# Altium footprint library Discrete_Diodes_TVS.PcbLib: 4 footprints
Each footprint in its own frame and in the unit in brackets; x right, y up, seen from the top. Pads: shape width x height; smd on the part's side, far side on the other; paste and mask are expansions set on the pad; w line width, h text height; cw(c..) or ccw(c..) is an arc to the next point about the centre after c.
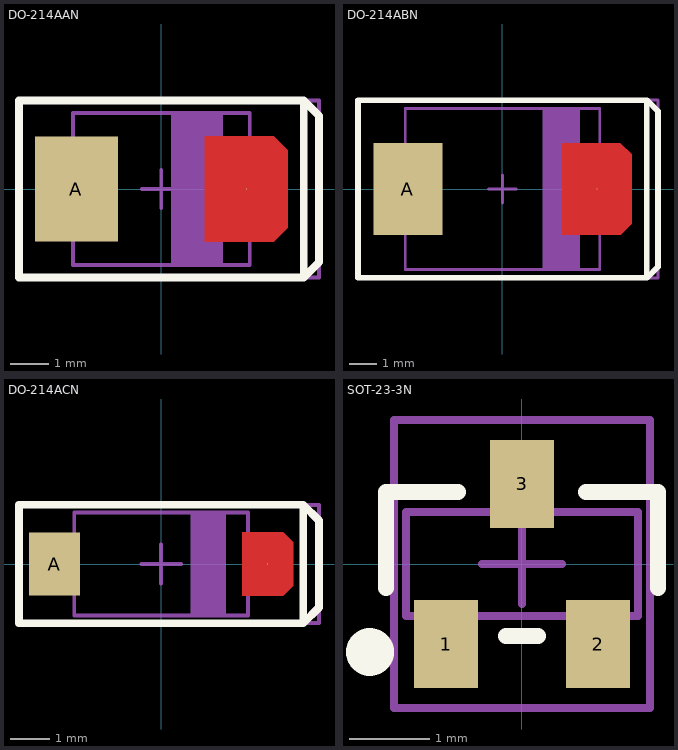
[diagram p0: the footprints below, top view; thin cyan lines are the x and y axes]

## DO-214AAN [mil]
height 98.43
pads (2):
  rect 85x107.99 smd: A(-87.01,0)
  round 1 smd: C(87.01,0)
Top Layer:
  region: 129.51,39.78 115.3,54 44.51,54 44.51,-54 115.3,-54 129.51,-39.78
Top Overlay:
  lines w7.87: 145.67,-90.55 -145.67,-90.55 -145.67,90.55 145.67,90.55 ; 145.67,-90.55 145.67,90.55 ; 145.67,-90.55 161.42,-74.8 161.42,74.8 145.67,90.55 ; 145.67,-90.55 145.67,-90.55 ; 145.67,90.55 145.67,90.55
Top Package:
  rectangle: 12.8,-77.76 62.01,78.74
  lines w3.94: -90.55,-43.31 -110.24,-43.31 -110.24,43.31 -90.55,43.31 ; 11.81,-76.77 11.81,77.76 ; 61.02,-77.76 61.02,77.76 ; 90.55,-43.31 110.24,-43.31 110.24,43.31 90.55,43.31 ; -90.55,-77.76 90.55,-77.76 90.55,77.76 -90.55,77.76 -90.55,-77.76
Top Border:
  lines w3.94: -19.68,0 19.68,0 ; 0,-19.68 0,19.68 ; -145.67,-90.55 161.42,-90.55 161.42,90.55 -145.67,90.55 -145.67,-90.55
3D body "User Library-DO-214AA_SMB.step": height 86.65, standoff -1.97, extent -104.34,-72.84 104.32,72.83

## DO-214ABN [mm]
height 2.5
pads (2):
  rect 2.5x3.3 smd: A(-3.4,0)
  round 0.025 smd: C(3.4,0)
Top Layer:
  region: 4.65,1.25 4.25,1.65 2.15,1.65 2.15,-1.65 4.25,-1.65 4.65,-1.25
Top Overlay:
  lines w0.2: 5.2,-3.2 5.6,-2.8 5.6,2.8 5.2,3.2 ; 5.2,-3.2 -5.2,-3.2 -5.2,3.2 5.2,3.2 ; 5.2,-3.2 5.2,3.2 ; 5.2,3.2 5.2,3.2
Top Package:
  rectangle: 1.525,-2.875 2.775,2.875
  lines w0.1: -3.5,-1.4 -4,-1.4 -4,1.4 -3.5,1.4 ; 1.5,-2.9 1.5,2.9 ; 2.75,-2.9 2.75,2.9 ; 3.5,-1.5 4,-1.5 4,1.5 3.5,1.5 ; -3.5,-2.9 -3.5,2.9 3.5,2.9 3.5,-2.9 -3.5,-2.9
Top Border:
  lines w0.1: -0.5,0 0.5,0 ; 0,-0.5 0,0.5 ; -5.2,-3.2 -5.2,3.2 5.6,3.2 5.6,-3.2 -5.2,-3.2
3D body "DO-214AB.step": height 2.3, standoff 0, extent -3.975,-2.95 3.975,2.95

## DO-214ACN [mm]
height 2.5
pads (2):
  rect 1.3x1.6 smd: A(-2.7,0)
  round 0.025 smd: C(2.7,0)
Top Layer:
  region: 2.05,-0.8 3.1,-0.8 3.35,-0.55 3.35,0.55 3.1,0.8 2.05,0.8
Top Overlay:
  lines w0.2: 3.6,-1.5 -3.6,-1.5 -3.6,1.5 3.6,1.5 ; 3.6,-1.5 3.6,1.5 ; 3.6,-1.5 4,-1.1 4,1.1 3.6,1.5
Top Package:
  rectangle: 0.8,-1.3 1.6,1.3
  lines w0.1: -2.2,-0.7 -2.6,-0.7 -2.6,0.7 -2.2,0.7 ; 0.8,-1.3 0.8,1.3 ; 1.6,-1.3 1.6,1.3 ; 2.2,-0.7 2.6,-0.7 2.6,0.7 2.2,0.7 ; -2.2,-1.3 2.2,-1.3 2.2,1.3 -2.2,1.3 -2.2,-1.3
Top Border:
  lines w0.1: -0.5,0 0.5,0 ; 0,-0.5 0,0.5 ; -3.6,-1.5 4,-1.5 4,1.5 -3.6,1.5 -3.6,-1.5
3D body "DO-214AC.STEP": height 2.3, standoff -0.1, extent -2.6,-1.3 2.6,1.3

## SOT-23-3N [mm]
height 1.2
pads (3):
  rect 0.8x1.1 smd: 1(-0.95,-1) 2(0.95,-1) 3(0,1)
Top Overlay:
  circle w0.3: c-1.9,-1.1 r0.15
  lines w0.2: -1.7,-0.3 -1.7,0.9 -0.8,0.9 ; -0.2,-0.9 0.2,-0.9 ; 0.8,0.9 1.7,0.9 1.7,-0.3
Top Package:
  lines w0.1: -1.175,-0.95 -0.725,-0.95 ; -1.175,-0.675 -1.175,-1.25 -0.725,-1.25 -0.725,-0.675 ; -0.225,0.65 -0.225,1.225 0.225,1.225 0.225,0.65 ; -0.225,0.925 0.225,0.925 ; 0.725,-0.95 1.175,-0.95 ; 0.725,-0.65 0.725,-1.225 1.175,-1.225 1.175,-0.65 ; -1.45,-0.65 1.45,-0.65 1.45,0.65 -1.45,0.65 -1.45,-0.65
Top Border:
  lines w0.1: -0.5,0 0.5,0 ; 0,-0.5 0,0.5 ; -1.6,-1.8 -1.6,1.8 1.6,1.8 1.6,-1.8 -1.6,-1.8
3D body "SOT23-3.step": height 1.3, standoff 0, extent -1.45,-1.4 1.45,1.4